# EAGLE library part LMR51420XDDCR (library LMR51420XDDCR)
Switching Voltage Regulators SIMPLE SWITCHER power converter 4.5-V to 36-V, 2-A, synchronous buck with 40-uA IQ Source: Datasheet <https://www.ti.com/lit/ds/symlink/lmr51420.pdf?ts=1663231243064>
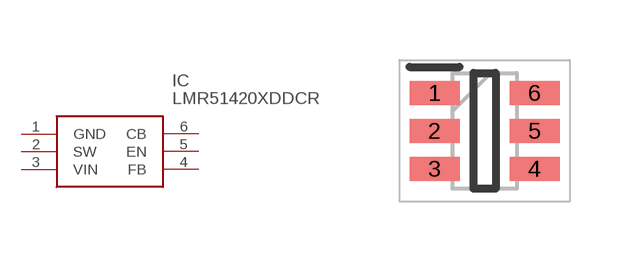
[diagram p0: symbol with the pads of SOT95P280X110-6N; footprint SOT95P280X110-6N]

Designator prefix IC

## LMR51420XDDCR (Arrow_Part_Number: LMR51420XDDCR; Arrow_Price-Stock: https://www.arrow.com/en/products/lmr51420xddcr/texas-instruments?utm_currency=USD&region=nac; Description: Switching Voltage Regulators SIMPLE SWITCHER power converter 4.5-V to 36-V, 2-A, synchronous buck with 40-uA IQ; Height: 1.1mm; Manufacturer_Name: Texas Instruments; Manufacturer_Part_Number: LMR51420XDDCR; Mouser_Part_Number: 595-LMR51420XDDCR; Mouser_Price-Stock: https://www.mouser.co.uk/ProductDetail/Texas-Instruments/LMR51420XDDCR?qs=vvQtp7zwQdN6fBqQU4azxw%3D%3D)  [SOT95P280X110-6N]
1  GND
2  SW
3  VIN
4  FB
5  EN
6  CB

## Footprint SOT95P280X110-6N (pad centres in mm)
DDC
smd 1.25 x 0.6: 1 -1.25,0.95; 2 -1.25,0; 3 -1.25,-0.95; 4 1.25,-0.95; 5 1.25,0; 6 1.25,0.95